# Altium schematic symbol library CAPACITOR.SchLib: 26 symbols
Pins are listed as number, name and electrical type; pins without a type are passive.

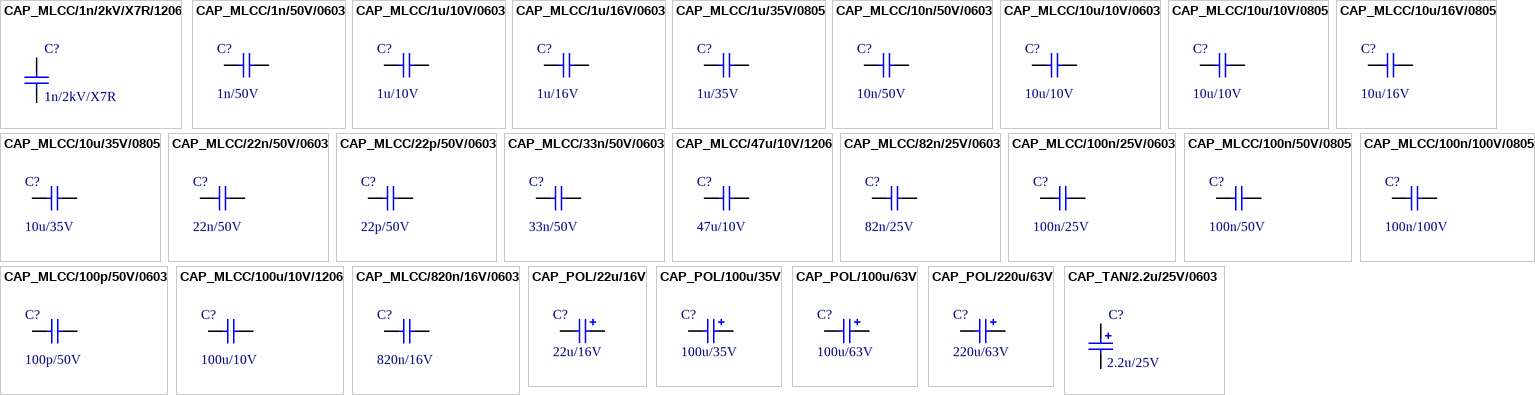
[diagram p0: symbols CAP_MLCC/1n/2kV/X7R/1206 to CAP_TAN/2.2u/25V/0603]

## CAP_MLCC/1n/2kV/X7R/1206
designator C?, comment 1n/2kV/X7R
Multilayer Ceramic Capacitor; Part Number: C1206C102KGRACTU; Manufacturer: KEMET; Distributor 1: Digikey; Distributor 1 ID: 399-4819-1-ND; Second Source: *; Value: 1n/2kV/X7R
footprint CAP_1206N (Chip Capacitor, 2-Leads, Body 3.4x1.8mm, IPC Medium Density)
pins: 1, 2

## CAP_MLCC/1n/50V/0603
designator C?, comment value 1n/50V  (hidden comment: 1n/50V/0603)
Multilayer Ceramic Capacitors MLCC - SMD/SMT 50V 1000pF 0603 X7R 5%; Manufacturer: KEMET; Part Number: C0603C103J5RACTU; Distributor: Mouser; Distributor ID: 80-C0603C103J5R
footprint CAP_0603N (CAPC1608X90X35NL10T15, Chip Capacitor, 2-Leads, Body 1.7x0.9mm, IPC Medium Density)
pins: 1, 2

## CAP_MLCC/1u/10V/0603
designator C?, comment value 1u/10V  (hidden comment: 1u/10V/0603)
Multilayer Ceramic Capacitors MLCC - SMD/SMT 10V 1uF 0603 X7R 5%; Manufacturer: KEMET; Part Number: C0603C103J5RACTU; Distributor: Mouser; Distributor ID: 80-C0603C103J5R
footprint CAP_0603N (CAPC1608X90X35NL10T15, Chip Capacitor, 2-Leads, Body 1.7x0.9mm, IPC Medium Density)
pins: 1, 2

## CAP_MLCC/1u/16V/0603
designator C?, comment value 1u/16V  (hidden comment: 1u/16V/0603)
Multilayer Ceramic Capacitors MLCC - SMD/SMT 16V 1uF 0603 X7R 5%; Manufacturer: KEMET; Part Number: C0603C103J5RACTU; Distributor: Mouser; Distributor ID: 80-C0603C103J5R
footprint CAP_0603N (CAPC1608X90X35NL10T15, Chip Capacitor, 2-Leads, Body 1.7x0.9mm, IPC Medium Density)
pins: 1, 2

## CAP_MLCC/1u/35V/0805
designator C?, comment value 1u/35V  (hidden comment: 1u/35V/0805)
Multilayer Ceramic Capacitors MLCC - SMD/SMT 1.0UF 35V 10% 0805; Manufacturer: Murata; Part Number: C0805C106K8PACTU; Distributor: Mouser; Distributor ID: 80-C0805C106K8P
footprint CAP_0805N (Chip Capacitor, 2-Leads, Body 2.00x1.25mm, IPC Medium Density)
pins: 1, 2

## CAP_MLCC/10n/50V/0603
designator C?, comment value 10n/50V  (hidden comment: 10n/50V/0603)
Multilayer Ceramic Capacitors MLCC - SMD/SMT 50V 0.01uF 0603 X7R 5%; Manufacturer: KEMET; Part Number: C0603C103J5RACTU; Distributor: Mouser; Distributor ID: 80-C0603C103J5R
footprint CAP_0603N (CAPC1608X90X35NL10T15, Chip Capacitor, 2-Leads, Body 1.7x0.9mm, IPC Medium Density)
pins: 1, 2

## CAP_MLCC/10u/10V/0603
designator C?, comment value 10u/10V  (hidden comment: 10u/10V/0603)
Multilayer Ceramic Capacitors MLCC - SMD/SMT 10UF 10V 20% 0603; Manufacturer: KEMET; Part Number: C0603C103J5RACTU; Distributor: Mouser; Distributor ID: 80-C0603C103J5R
footprint CAP_0603N (CAPC1608X90X35NL10T15, Chip Capacitor, 2-Leads, Body 1.7x0.9mm, IPC Medium Density)
pins: 1, 2

## CAP_MLCC/10u/10V/0805
designator C?, comment value 10u/10V  (hidden comment: 10u/10V/0805)
Multilayer Ceramic Capacitors MLCC - SMD/SMT 10volts 10uF X5R 10%; Manufacturer: Murata; Part Number: C0805C106K8PACTU; Distributor: Mouser; Distributor ID: 80-C0805C106K8P
footprint CAP_0805N (Chip Capacitor, 2-Leads, Body 2.00x1.25mm, IPC Medium Density)
pins: 1, 2

## CAP_MLCC/10u/16V/0805
designator C?, comment value 10u/16V  (hidden comment: 10u/16V/0805)
Multilayer Ceramic Capacitors MLCC - SMD/SMT 10UF 16V 10% 0805; Manufacturer: Murata; Part Number: C0805C106K8PACTU; Distributor: Mouser; Distributor ID: 80-C0805C106K8P
footprint CAP_0805N (Chip Capacitor, 2-Leads, Body 2.00x1.25mm, IPC Medium Density)
pins: 1, 2

## CAP_MLCC/10u/35V/0805
designator C?, comment value 10u/35V  (hidden comment: 10u/35V/0805)
Multilayer Ceramic Capacitors MLCC - SMD/SMT 0805 10uF 35volts *Derate Voltage/Temp; Manufacturer: Murata; Part Number: GRM21BR6YA106KE43L; Distributor: Mouser; Distributor ID: 81-GRM21BR6YA106KE3L
footprint CAP_0805N (Chip Capacitor, 2-Leads, Body 2.00x1.25mm, IPC Medium Density)
pins: 1, 2

## CAP_MLCC/22n/50V/0603
designator C?, comment value 22n/50V  (hidden comment: 22n/50V/0603)
Multilayer Ceramic Capacitors MLCC - SMD/SMT 50V 22nF 0603 X7R 5%; Manufacturer: KEMET; Part Number: C0603C103J5RACTU; Distributor: Mouser; Distributor ID: 80-C0603C103J5R
footprint CAP_0603N (CAPC1608X90X35NL10T15, Chip Capacitor, 2-Leads, Body 1.7x0.9mm, IPC Medium Density)
pins: 1, 2

## CAP_MLCC/22p/50V/0603
designator C?, comment value 22p/50V  (hidden comment: 22p/50V/0603)
Multilayer Ceramic Capacitors MLCC - SMD/SMT 50V 22pF 0603 C0G 5%; Manufacturer: KEMET; Part Number: C0603C220J5GAC7411; Distributor: Mouser; Distributor ID: 80-C0603C220J5G7411
footprint CAP_0603N (CAPC1608X90X35NL10T15, Chip Capacitor, 2-Leads, Body 1.7x0.9mm, IPC Medium Density)
pins: 1, 2

## CAP_MLCC/33n/50V/0603
designator C?, comment value 33n/50V  (hidden comment: 33n/50V/0603)
Multilayer Ceramic Capacitors MLCC - SMD/SMT 50V 33nF 0603 X7R 5%; Manufacturer: KEMET; Part Number: C0603C103J5RACTU; Distributor: Mouser; Distributor ID: 80-C0603C103J5R
footprint CAP_0603N (CAPC1608X90X35NL10T15, Chip Capacitor, 2-Leads, Body 1.7x0.9mm, IPC Medium Density)
pins: 1, 2

## CAP_MLCC/47u/10V/1206
designator C?, comment value 47u/10V  (hidden comment: 47u/10V/1206)
Multilayer Ceramic Capacitors MLCC - SMD/SMT 47UF 10V 20% 1206; Manufacturer: Murata; Part Number: GRM31CR61A476ME15L; Distributor: Mouser; Distributor ID: 81-GRM31CR61A476ME5L
footprint CAP_1206N (Chip Capacitor, 2-Leads, Body 3.4x1.8mm, IPC Medium Density)
pins: 1, 2

## CAP_MLCC/82n/25V/0603
designator C?, comment value 82n/25V  (hidden comment: 82n/25V/0603)
Multilayer Ceramic Capacitors MLCC - SMD/SMT 25V 0.082uF 0603 X7R 10%; Manufacturer: KEMET; Part Number: C0603C103J5RACTU; Distributor: Mouser; Distributor ID: 80-C0603C103J5R
footprint CAP_0603N (CAPC1608X90X35NL10T15, Chip Capacitor, 2-Leads, Body 1.7x0.9mm, IPC Medium Density)
pins: 1, 2

## CAP_MLCC/100n/25V/0603
designator C?, comment value 100n/25V  (hidden comment: 100n/25V/0603)
Multilayer Ceramic Capacitors MLCC - SMD/SMT 25V 0.1uF 0603 X7R 10%; Manufacturer: KEMET; Part Number: C0603C104K3RACTU; Distributor: Mouser; Distributor ID: 80-C0603C104K3R
footprint CAP_0603N (CAPC1608X90X35NL10T15, Chip Capacitor, 2-Leads, Body 1.7x0.9mm, IPC Medium Density)
pins: 1, 2

## CAP_MLCC/100n/50V/0805
designator C?, comment value 100n/50V  (hidden comment: 100n/50V/0805)
Multilayer Ceramic Capacitors MLCC - SMD/SMT 50V 0.1uF X7R 0805 5%; Manufacturer: KEMET; Part Number: C0805C104J5RACTU; Distributor: Mouser; Distributor ID: 80-C0805C104J5R
footprint CAP_0805N (Chip Capacitor, 2-Leads, Body 2.00x1.25mm, IPC Medium Density)
pins: 1, 2

## CAP_MLCC/100n/100V/0805
designator C?, comment value 100n/100V  (hidden comment: 100n/100V/0805)
Multilayer Ceramic Capacitors MLCC - SMD/SMT 100V 0.1uF X7R 0805 10%; Manufacturer: KEMET; Part Number: C0805C104J5RACTU; Distributor: Mouser; Distributor ID: 80-C0805C104J5R
footprint CAP_0805N (Chip Capacitor, 2-Leads, Body 2.00x1.25mm, IPC Medium Density)
pins: 1, 2

## CAP_MLCC/100p/50V/0603
designator C?, comment value 100p/50V  (hidden comment: 100p/50V/0603)
Multilayer Ceramic Capacitors MLCC - SMD/SMT 50V 100pF 0603 X7R 5%; Manufacturer: KEMET; Part Number: C0603C101J5RACTU; Distributor: Mouser; Distributor ID: 80-C0603C101J5R
footprint CAP_0603N (CAPC1608X90X35NL10T15, Chip Capacitor, 2-Leads, Body 1.7x0.9mm, IPC Medium Density)
pins: 1, 2

## CAP_MLCC/100u/10V/1206
designator C?, comment value 100u/10V  (hidden comment: 100u/10V/1206)
Multilayer Ceramic Capacitors MLCC - SMD/SMT 100UF 10V 20% 1206; Manufacturer: Murata; Part Number: GRM31CR61A107ME05L; Distributor: Mouser; Distributor ID: 81-GRM31CR61A107ME5L
footprint CAP_1206N (Chip Capacitor, 2-Leads, Body 3.4x1.8mm, IPC Medium Density)
pins: 1, 2

## CAP_MLCC/820n/16V/0603
designator C?, comment value 820n/16V  (hidden comment: 820n/16V/0603)
Multilayer Ceramic Capacitors MLCC - SMD/SMT 16V 0.82uF 0603 X7R 10%; Manufacturer: KEMET; Part Number: C0603C103J5RACTU; Distributor: Mouser; Distributor ID: 80-C0603C103J5R
footprint CAP_0603N (CAPC1608X90X35NL10T15, Chip Capacitor, 2-Leads, Body 1.7x0.9mm, IPC Medium Density)
pins: 1, 2

## CAP_POL/22u/16V
designator C?, comment 22u/16V
Tantalum Capacitors - Solid SMD 22uF 16V 10% L ESR; Manufacturer: Murata; Part Number: GRM31CR61A107ME05L; Distributor: Mouser; Distributor ID: 81-GRM31CR61A107ME5L; Value: 22u/16V
footprint CAPCP3528X20N (Chip Capacitor, 2-Leads, Body 3.50x2.80mm, IPC Medium Density)
pins: 1, 2

## CAP_POL/100u/35V
designator C?, comment 100u/35V
Aluminum Electrolytic Capacitors - Radial Leaded 35V 100uF 105C 8k Hour Radial; Manufacturer: Murata; Part Number: GRM31CR61A107ME05L; Distributor: Mouser; Distributor ID: 81-GRM31CR61A107ME5L; Value: 100u/35V
footprint CAP_POL_6.3mm
pins: 1, 2

## CAP_POL/100u/63V
designator C?, comment 100u/63V
Aluminum Electrolytic Capacitors - Radial Leaded WCAP-ATUL 100uF 63V 20% Radial; Manufacturer: Murata; Part Number: GRM31CR61A107ME05L; Distributor: Mouser; Distributor ID: 81-GRM31CR61A107ME5L; Value: 100u/63V
footprint CAP_POL_10x12
pins: 1, 2

## CAP_POL/220u/63V
designator C?, comment 220u/63V
Aluminum Electrolytic Capacitors - Radial Leaded 220uF 63V 20% Radial; Manufacturer: Murata; Part Number: GRM31CR61A107ME05L; Distributor: Mouser; Distributor ID: 81-GRM31CR61A107ME5L; Value: 220u/63V
footprint CAP_POL_10x20
pins: 1, 2

## CAP_TAN/2.2u/25V/0603
designator C?, comment 2.2u/25V
Tantalum Capacitors - Polymer SMD 25V 2.2uF 0603 20% ESR=500mOhms; Part Number: F381E225MMA; Manufacturer: AVX; Distributor 1: Mouser; Distributor 1 ID: 581-F381E225MMA; Second Source: *; Value: 2.2u/25V
footprint CAP_0603NP (CAPC1608X90X35NL10T15, Chip Capacitor, 2-Leads, Body 1.7x0.9mm, IPC Medium Density)
pins: 1, 2